# EAGLE library part MICRODUINO (library inode)
Microduino https://www.microduino.cc/
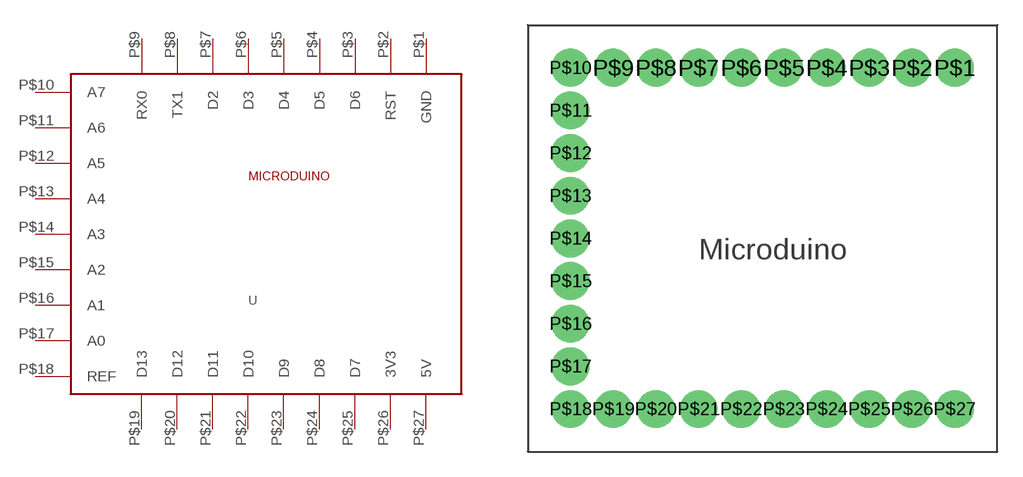
[diagram p1: symbol with the pads of MICRODUINO; footprint MICRODUINO]

Designator prefix -

## MICRODUINO  [MICRODUINO]
P$1  GND
P$2  RST
P$3  D6
P$4  D5
P$5  D4
P$6  D3
P$7  D2
P$8  TX1
P$9  RX0
P$10  A7
P$11  A6
P$12  A5
P$13  A4
P$14  A3
P$15  A2
P$16  A1
P$17  A0
P$18  REF
P$19  D13
P$20  D12
P$21  D11
P$22  D10
P$23  D9
P$24  D8
P$25  D7
P$26  3V3
P$27  5V

## Footprint MICRODUINO (pad centres in mm)
drill 1.5: P$1 11.43,10.16; P$2 8.89,10.16; P$3 6.35,10.16; P$4 3.81,10.16; P$5 1.27,10.16; P$6 -1.27,10.16; P$7 -3.81,10.16; P$8 -6.35,10.16; P$9 -8.89,10.16; P$10 -11.43,10.16; P$11 -11.43,7.62; P$12 -11.43,5.08; P$13 -11.43,2.54; P$14 -11.43,0; P$15 -11.43,-2.54; P$16 -11.43,-5.08; P$17 -11.43,-7.62; P$18 -11.43,-10.16; P$19 -8.89,-10.16; P$20 -6.35,-10.16; P$21 -3.81,-10.16; P$22 -1.27,-10.16; P$23 1.27,-10.16; P$24 3.81,-10.16; P$25 6.35,-10.16; P$26 8.89,-10.16; P$27 11.43,-10.16